# Altium schematic symbol library Power.SchLib: 3 symbols
Pins are listed as number, name and electrical type; pins without a type are passive.

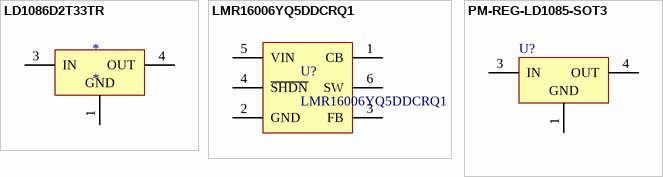
[diagram p0: symbols LD1086D2T33TR to PM-REG-LD1085-SOT3]

## LD1086D2T33TR
designator *
LDO Voltage Regulators 3.3V 1.5A Positive; Manufacturer: STMicroelectronics; Manufacturer Part Number: LD1086D2T33TR; Input Voltage MAX: 30 V; Number of Outputs: 1 Output; Output Type: Fixed; Quiescent Current: 10 mA; Dropout Voltage - Max: 1.5 V at 1.5 A; Voltage Regulation Accuracy: 1 %; Dropout Voltage: 1.3 V at 1.5 A; Ib - Input Bias Current: 5 mA; Line Regulation: 6 mV; Load Regulation: 10 mV; Supplier 1: Mouser; Supplier Part Number 1: 511-LD1086D2T33-TR; RoHS: RoHS Compliant; Category: LDO Voltage Regulators; Stock 1: 1943; Pricing 1: 1=0.887, 10=0.714, 100=0.548, 500=0.485, 1000=0.383, 2000=0.339, 10000=0.326 (EUR); Output Current: 1.5 A; Output Voltage: 3.3 V; Package/Case: D2PAK-3; Packaging: Reel; Series: LD1086D2T; Brand: STMicroelectronics; Mounting Style: SMD/SMT; Maximum Operating Temperature: + 125 C; Minimum Operating Temperature: - 40 C; Standard Pack Qty: 1000; RoHS - Mouser: Y; Minimum Order Quantity: 1; Reeling: True; ComponentLink1URL: http://www.mouser.com/ds/2/389/CD00001884-310754.pdf; ComponentLink1Description: http://www.mouser.com/ds/2/389/CD00001884-310754.pdf
footprint D2PAK (D2-PAK, 4-Leads, Body 9.2x10.2mm, Pitch 2.54mm, Lead Span 15.4mm, IPC Low Density)
pins: 1 GND (power), 3 IN (power), 4 OUT (power)

## LMR16006YQ5DDCRQ1
designator U?
IC REG BUCK 5V 0.6A 6SOT; Manufacturer: Texas Instruments; Function: Step-Down; Output Configuration: Positive; Output Type: Fixed; Number of Outputs: 1; Voltage - Input (Min): 4V; Voltage - Input (Max): 40V; Current - Output: 600mA; Frequency - Switching: 2.1MHz; Synchronous Rectifier: No; Supplier 1: Digi-Key; Supplier Part Number 1: 296-42515-1-ND; Manufacturer Part Number: LMR16006YQ5DDCRQ1; RoHS: RoHS Compliant; Category: Integrated Circuits (ICs); Stock 1: 2026; Pricing 1: 1=3.48, 10=3.121, 100=2.5607, 500=2.17854, 1000=1.5925 (USD); Packaging: Cut Tape (CT); Part Status: Active; Topology: Buck; Voltage - Output (Min/Fixed): 5V; Voltage - Output (Max): -; Operating Temperature: -40°C ~ 125°C (TJ); Mounting Type: Surface Mount; Package / Case: SOT-23-6 Thin, TSOT-23-6; Supplier Device Package: 6-SOT; ComponentLink1URL: http://www.ti.com/lit/ds/symlink/lmr16006y-q1.pdf; ComponentLink1Description: http://www.ti.com/lit/ds/symlink/lmr16006y-q1.pdf
footprint SOT95P280X110-6M (SOT23, 6-Leads, Body 2,90x2,80mm, Pitch 0,95mm, IPC Low Density)
footprint SOT95P280X110-6N (SOT23, 6-Leads, Body 2,90x2,80mm, Pitch 0,95mm, IPC Medium Density)
footprint SOT95P280X110-6L (SOT23, 6-Leads, Body 2,90x2,80mm, Pitch 0,95mm, IPC High Density)
pins: 1 CB, 2 GND, 3 FB, 4 ~{SHDN}, 5 VIN, 6 SW

## PM-REG-LD1085-SOT3
designator U?
pins: 1 GND (power), 3 IN (power), 4 OUT (power)